# Altium footprint library Active.PcbLib: 29 footprints (part 2 of 2)
Each footprint in its own frame and in the unit in brackets; x right, y up, seen from the top. Pads: shape width x height; smd on the part's side, far side on the other; paste and mask are expansions set on the pad; w line width, h text height; cw(c..) or ccw(c..) is an arc to the next point about the centre after c.
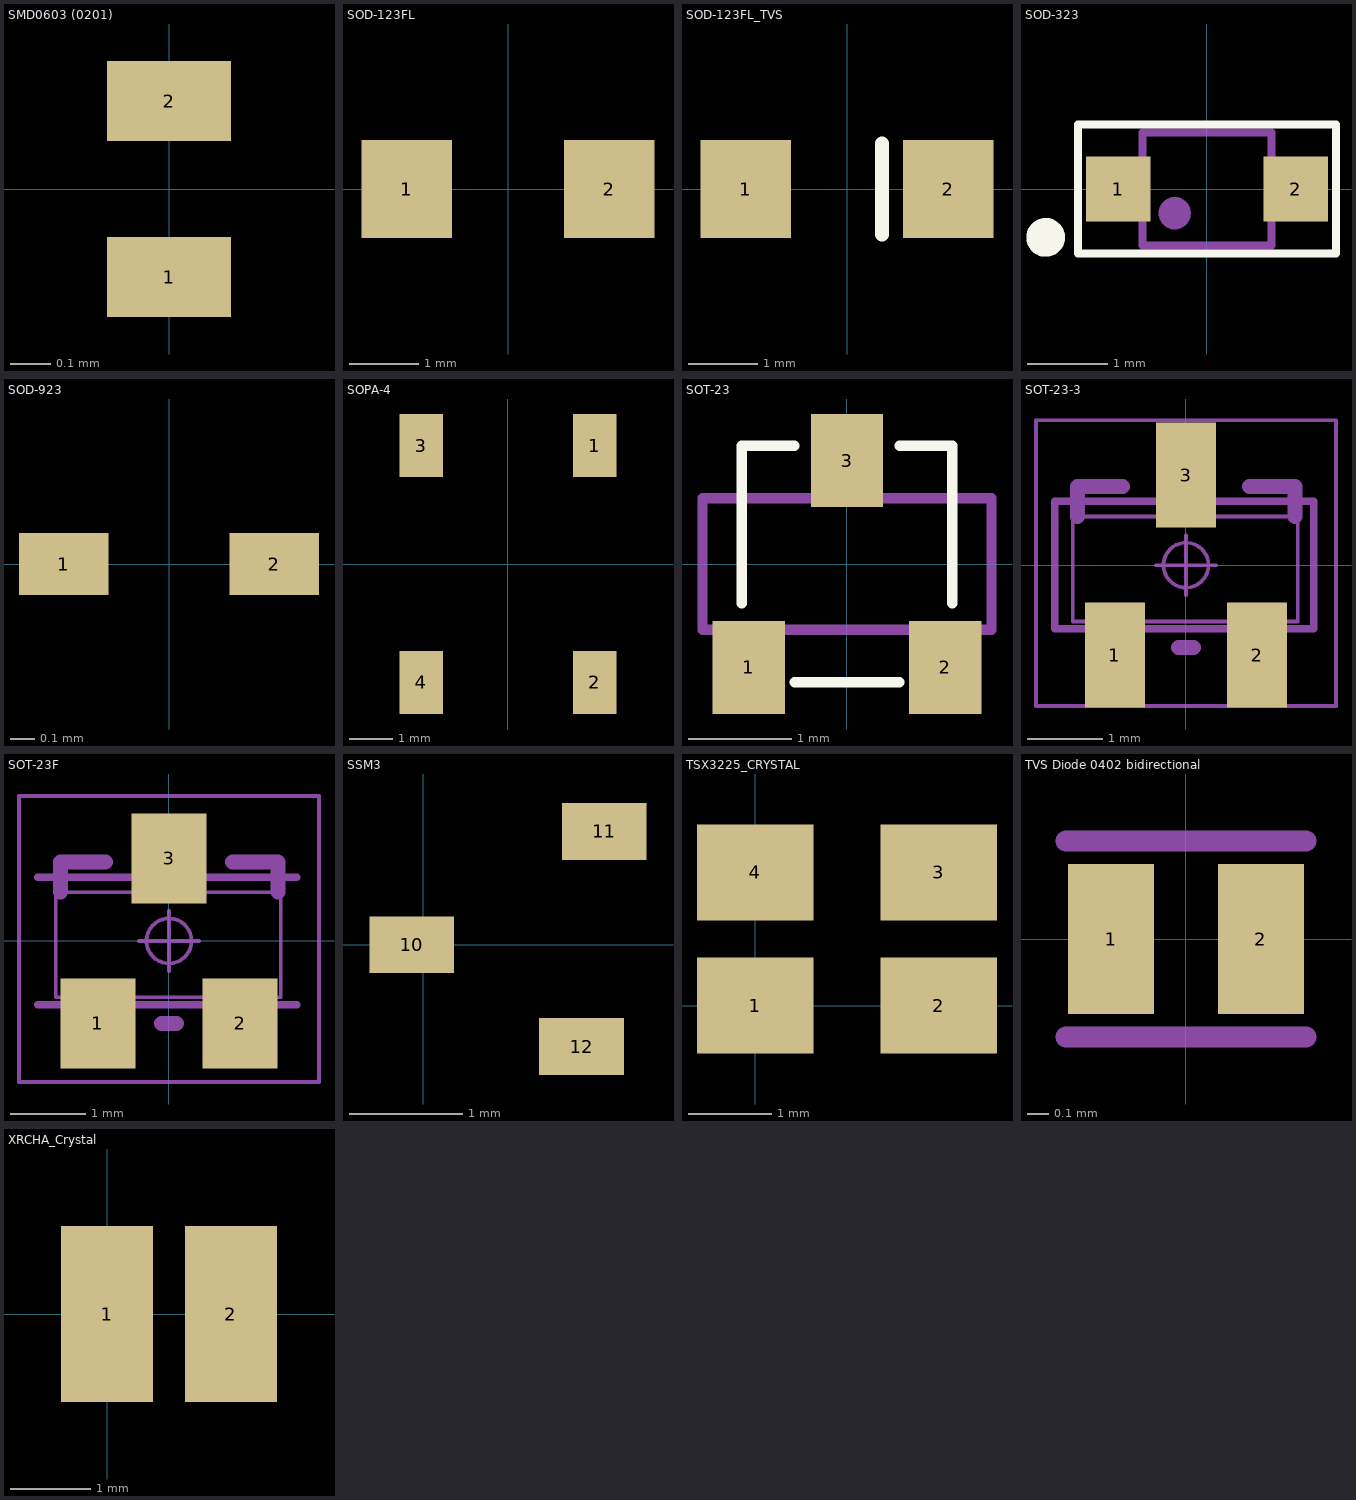
[diagram p1: the footprints below, top view; thin cyan lines are the x and y axes]

## SMD0603 (0201) [mm] "0201 Footprint for ESD Diode"
pads (2):
  rect 0.31x0.2 smd mask+0.025: 1(0,-0.22) 2(0,0.22)
3D body: height 0.3, standoff 0, extent -0.15,-0.3 0.15,0.3

## SOD-123FL [mm]
pads (2):
  rect 1.3x1.4 smd mask+0.051: 1(-1.45,0) 2(1.45,0)
3D body: height 1, standoff 0, extent -1.5,-1 1.5,1

## SOD-123FL_TVS [mm]
pads (2):
  rect 1.3x1.4 smd mask+0.051: 1(-1.45,0) 2(1.45,0)
Top Overlay:
  lines w0.2: 0.5,-0.65 0.5,0.65
3D body: height 1, standoff 0, extent -1.5,-1 1.5,1

## SOD-323 [mm]
height 1.15
pads (2):
  rect 0.8x0.8 smd mask+0.03: 1(-1.1,0) 2(1.1,0)
Top Overlay:
  circle w0.24: c-2,-0.6 r0.12
  lines w0.1: -1.6,-0.8 1.6,-0.8 1.6,0.8 -1.6,0.8 -1.6,-0.8
Mechanical 7:
  circle w0.2: c-0.4,-0.3 r0.1
  lines w0.1: -0.8,-0.1 -1.3,-0.1 -1.3,0.1 -0.8,0.1 ; 0.8,-0.1 1.3,-0.1 1.3,0.1 0.8,0.1 ; -0.8,-0.7 -0.8,0.7 0.8,0.7 0.8,-0.7 -0.8,-0.7
  text ".Designator" at -0.7,0.9 h1.5
3D body: height 1.15, standoff 0, extent -0.9,-0.8 0.9,0.8
3D body: height 0.6, standoff 0, extent 0.9,-0.2 1.3,0.2
3D body: height 0.6, standoff 0, extent -1.3,-0.2 -0.9,0.2

## SOD-923 [mm]
pads (2):
  rect 0.36x0.25 smd mask+0: 1(-0.425,0) 2(0.425,0)
3D body: height 0.4, standoff 0, extent -0.4,-0.3 0.4,0.3

## SOPA-4 [mm] "Diodes Incorporated"
pads (4):
  rect 1x1.45 smd mask+0.051: 1(2,2.725) 2(2,-2.725) 3(-2,2.725) 4(-2,-2.725)
3D body: height 1.5, standoff 0, extent -2.5,-3.2 2.5,3.2

## SOT-23 [mm]
pads (3):
  rect 0.7x0.9 smd mask+0.03: 1(-0.95,-1) 2(0.95,-1) 3(0,1)
Top Overlay:
  lines w0.1: -1.016,-0.381 -1.016,1.143 -0.508,1.143 ; -0.508,-1.143 0.508,-1.143 ; 0.508,1.143 1.016,1.143 1.016,-0.381
Mechanical 7:
  lines w0.1: -1.194,-0.635 -1.194,-1.27 -0.686,-1.27 -0.686,-0.635 ; -0.254,0.635 -0.254,1.27 0.254,1.27 0.254,0.635 ; 0.686,-0.635 0.686,-1.27 1.194,-1.27 1.194,-0.635 ; -1.397,-0.635 -1.397,0.635 1.397,0.635 1.397,-0.635 -1.397,-0.635
  text ".Designator" at -1.016,-0.508 h1.5
3D body: height 1.15, standoff 0, extent -1.55,-0.7 1.55,0.7
3D body: height 1.15, standoff 0, extent -1.6,-0.762 1.6,0.762

## SOT-23-3 [mm] "SOT-23.ogl"
pads (3):
  rect 0.8x1.4 smd: 1(-0.95,-1.2) 2(0.95,-1.2) 3(0,1.2)
Mechanical 2:
  lines w0.05: -1.15,-0.75 -1.15,-1.35 -0.75,-1.35 -0.75,-0.75 ; -0.2,0.65 -0.2,1.25 0.2,1.25 0.2,0.65 ; 0.75,-0.75 0.75,-1.35 1.15,-1.35 1.15,-0.75 ; -1.509,-0.75 1.491,-0.75 1.491,0.65 -1.509,0.65 -1.509,-0.75
Mechanical 4:
  circle w0.05: c0,0 r0.3
  lines w0.05: -0.4,0 0.4,0 ; 0,-0.4 0,0.4 ; -2,-1.88 2,-1.88 2,1.93 -2,1.93 -2,-1.88
Mechanical 7:
  lines w0.1: -1.15,-0.85 -1.15,-1.45 -0.75,-1.45 -0.75,-0.85 ; -0.2,0.85 -0.2,1.45 0.2,1.45 0.2,0.85 ; 0.75,-0.85 0.75,-1.45 1.15,-1.45 1.15,-0.85 ; -1.75,-0.85 -1.75,0.85 1.7,0.85 1.7,-0.85 -1.75,-0.85
  text ".Designator" at -0.8,-0.6 h1.8
Mechanical 13:
  lines w0.2: -1.45,0.65 -1.45,1.05 -0.85,1.05 ; -0.1,-1.1 0.1,-1.1 ; 0.85,1.05 1.45,1.05 1.45,0.65
3D body "SOT-23DZ.STEP": height 1.4, standoff 0, extent -1.4,-1.575 1.409,1.515

## SOT-23F [mm] "SOT-23.ogl"
pads (3):
  rect 1x1.2 smd: 1(-0.95,-1.1) 2(0.95,-1.1) 3(0,1.1)
Mechanical 2:
  lines w0.05: -1.15,-0.75 -1.15,-1.35 -0.75,-1.35 -0.75,-0.75 ; -0.2,0.65 -0.2,1.25 0.2,1.25 0.2,0.65 ; 0.75,-0.75 0.75,-1.35 1.15,-1.35 1.15,-0.75 ; -1.509,-0.75 -1.509,0.65 1.491,0.65 1.491,-0.75 -1.509,-0.75
Mechanical 4:
  circle w0.05: c0,0 r0.3
  lines w0.05: -0.4,0 0.4,0 ; 0,-0.4 0,0.4 ; -2,-1.88 -2,1.93 2,1.93 2,-1.88 -2,-1.88
Mechanical 7:
  lines w0.1: -1.75,-0.85 1.7,-0.85 ; -1.75,0.85 1.7,0.85 ; -1.15,-0.85 -1.15,-1.45 -0.75,-1.45 -0.75,-0.85 ; -0.2,0.85 -0.2,1.45 0.2,1.45 0.2,0.85 ; 0.75,-0.85 0.75,-1.45 1.15,-1.45 1.15,-0.85
  text ".Designator" at -1.75,-0.55 h1.8
Mechanical 13:
  lines w0.2: -1.45,0.65 -1.45,1.05 -0.85,1.05 ; -0.1,-1.1 0.1,-1.1 ; 0.85,1.05 1.45,1.05 1.45,0.65
3D body "SOT-23DZ.STEP": height 1.4, standoff 0, extent -1.4,-1.575 1.409,1.515

## SSM3 [mm]
pads (3):
  rect 0.75x0.5 smd mask+0.03: 10(-0.1,0) 11(1.6,1) 12(1.4,-0.9)

## TSX3225_CRYSTAL [mm]
pads (4):
  rect 1.4x1.15 smd mask+0.051: 1(0,0) 2(2.2,0) 3(2.2,1.6) 4(0,1.6)

## TVS Diode 0402 bidirectional [mm]
height 0.55
pads (2):
  rect 0.4x0.7 smd: 1(-0.35,0) 2(0.35,0)
Mechanical 7:
  lines w0.1: -0.559,-0.457 0.559,-0.457 ; -0.559,0.457 0.559,0.457
  text ".Designator" at -0.635,-0.381 h1.2
3D body: height 0.65, standoff 0, extent -0.533,-0.33 0.533,0.33

## XRCHA_Crystal [mm] "XRCHA_Crystal"
pads (2):
  rect 1.15x2.2 smd mask+0.051: 1(0,0) 2(1.55,0)